# Altium footprint library QFN.PcbLib: 6 footprints
Each footprint in its own frame and in the unit in brackets; x right, y up, seen from the top. Pads: shape width x height; smd on the part's side, far side on the other; paste and mask are expansions set on the pad; w line width, h text height; cw(c..) or ccw(c..) is an arc to the next point about the centre after c.
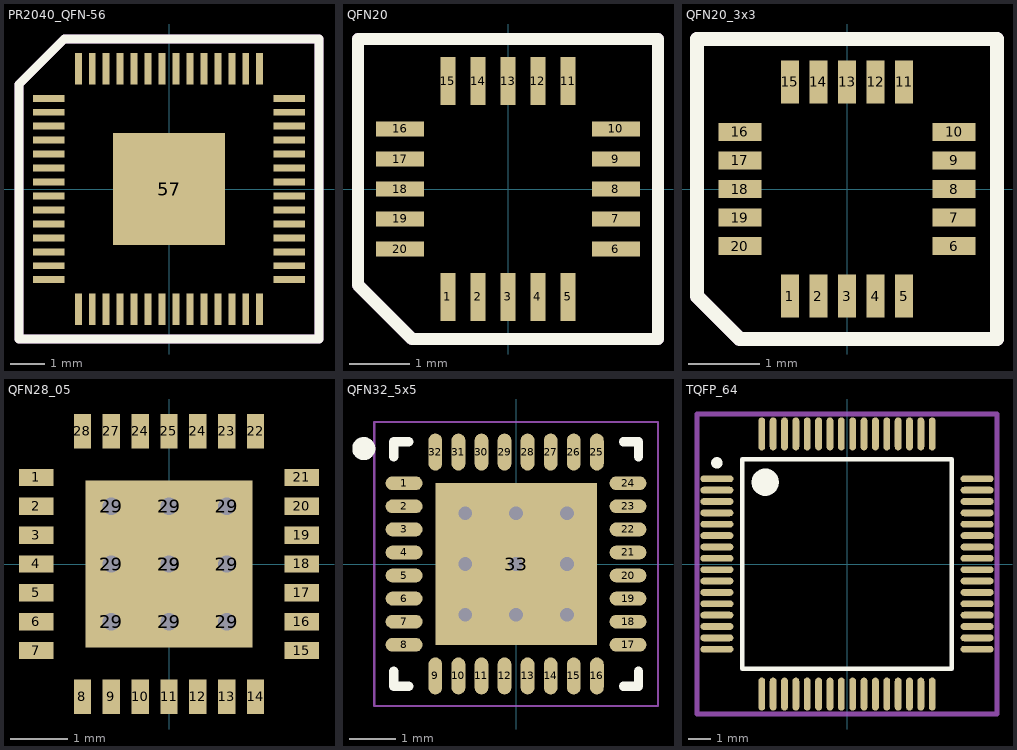
[diagram p0: the footprints below, top view; thin cyan lines are the x and y axes]

## PR2040_QFN-56 [mm]
pads (57):
  rect 0.9x0.2 smd: 1(-3.45,2.6) 2(-3.45,2.2) 3(-3.45,1.8) 4(-3.45,1.4) 5(-3.45,1) 6(-3.45,0.6) 7(-3.45,0.2) 8(-3.45,-0.2) 9(-3.45,-0.6) 10(-3.45,-1) 11(-3.45,-1.4) 12(-3.45,-1.8) 13(-3.45,-2.2) 14(-3.45,-2.6) 29(3.45,-2.6) 30(3.45,-2.2) 31(3.45,-1.8) 32(3.45,-1.4) 33(3.45,-1) 34(3.45,-0.6) 35(3.45,-0.2) 36(3.45,0.2) 37(3.45,0.6) 38(3.45,1) 39(3.45,1.4) 40(3.45,1.8) 41(3.45,2.2) 42(3.45,2.6)
  rect 0.2x0.9 smd: 15(-2.6,-3.45) 16(-2.2,-3.45) 17(-1.8,-3.45) 18(-1.4,-3.45) 19(-1,-3.45) 20(-0.6,-3.45) 21(-0.2,-3.45) 22(0.2,-3.45) 23(0.6,-3.45) 24(1,-3.45) 25(1.4,-3.45) 26(1.8,-3.45) 27(2.2,-3.45) 28(2.6,-3.45) 43(2.6,3.45) 44(2.2,3.45) 45(1.8,3.45) 46(1.4,3.45) 47(1,3.45) 48(0.6,3.45) 49(0.2,3.45) 50(-0.2,3.45) 51(-0.6,3.45) 52(-1,3.45) 53(-1.4,3.45) 54(-1.8,3.45) 55(-2.2,3.45) 56(-2.6,3.45)
  rect 3.2x3.2 smd: 57(0,0)
Top Overlay:
  lines w0.254: -4.3,-4.3 4.3,-4.3 4.3,4.3 -3,4.3 -4.3,3 -4.3,-4.3
TopAssy:
  lines w0.254: -4.3,-4.3 -4.3,3 -3,4.3 4.3,4.3 4.3,-4.3 -4.3,-4.3
  text ".Designator" at -3.6,-0.4 h1.52
3D body "RP2040_QFN56_04.step": height 0.85, standoff -0.05, extent -3.52,-3.52 3.52,3.52

## QFN20 [mm]
pads (20):
  rect 0.25x0.8 smd: 1(-1,-1.8) 2(-0.5,-1.8) 3(0,-1.8) 4(0.5,-1.8) 5(1,-1.8) 11(1,1.8) 12(0.5,1.8) 13(0,1.8) 14(-0.5,1.8) 15(-1,1.8)
  rect 0.8x0.25 smd: 6(1.8,-1) 7(1.8,-0.5) 8(1.8,0) 9(1.8,0.5) 10(1.8,1) 16(-1.8,1) 17(-1.8,0.5) 18(-1.8,0) 19(-1.8,-0.5) 20(-1.8,-1)
Top Overlay:
  lines w0.2: -2.5,-1.6 -2.5,2.5 2.5,2.5 2.5,-2.5 -1.6,-2.5 -2.5,-1.6
TopAssy:
  lines w0.2: -2.5,-1.6 -1.6,-2.5 2.5,-2.5 2.5,2.5 -2.5,2.5 -2.5,-1.6
  text ".Designator" at -0.8,-0.2 h1.52
3D body "QFN20_4x4.step": height 0.9, standoff -0.01, extent -2,-2 2,2

## QFN20_3x3 [mm]
pads (20):
  rect 0.25x0.6 smd: 1(-0.8,-1.5) 2(-0.4,-1.5) 3(0,-1.5) 4(0.4,-1.5) 5(0.8,-1.5) 11(0.8,1.5) 12(0.4,1.5) 13(0,1.5) 14(-0.4,1.5) 15(-0.8,1.5)
  rect 0.6x0.25 smd: 6(1.5,-0.8) 7(1.5,-0.4) 8(1.5,0) 9(1.5,0.4) 10(1.5,0.8) 16(-1.5,0.8) 17(-1.5,0.4) 18(-1.5,0) 19(-1.5,-0.4) 20(-1.5,-0.8)
Top Overlay:
  lines w0.2: -2.1,-1.5 -2.1,2.1 2.1,2.1 2.1,-2.1 -1.5,-2.1 -2.1,-1.5
TopAssy:
  lines w0.2: -2.1,-1.5 -1.5,-2.1 2.1,-2.1 2.1,2.1 -2.1,2.1 -2.1,-1.5
  text ".Designator" at -0.8,-0.2 h1.52
3D body "QFN40P300X300X60-20.step": height 0.6, standoff 0, extent -1.55,-1.55 1.55,1.55

## QFN28_05 [mm]
pads (38):
  rect 0.6x0.3 smd: 1(-2.3,1.5) 2(-2.3,1) 3(-2.3,0.5) 4(-2.3,0) 5(-2.3,-0.5) 6(-2.3,-1) 7(-2.3,-1.5) 15(2.3,-1.5) 16(2.3,-1) 17(2.3,-0.5) 18(2.3,0) 19(2.3,0.5) 20(2.3,1) 21(2.3,1.5)
  rect 0.3x0.6 smd: 8(-1.5,-2.3) 9(-1,-2.3) 10(-0.5,-2.3) 11(0,-2.3) 12(0.5,-2.3) 13(1,-2.3) 14(1.5,-2.3) 22(1.5,2.3) 23(1,2.3) 24(-0.5,2.3) 24(0.5,2.3) 25(0,2.3) 27(-1,2.3) 28(-1.5,2.3)
  round 0.5 hole 0.3: 29(-1,-1) 29(-1,0) 29(-1,1) 29(0,-1) 29(0,0) 29(0,1) 29(1,-1) 29(1,0) 29(1,1)
  rect 2.9x2.9 smd: 29(0,0)
3D body "QFN28-0_5.STEP": height 1, standoff 0, extent -2.5,-2.5 2.5,2.5

## QFN32_5x5 [mm] "QFN, 32-Leads, Body 5,00x5,00mm, Pitch 0,50mm, Thermal Pad 3,70x3,70mm, IPC Medium Density"
height 0.8
pads (33):
  oval 0.8x0.3 smd: 1(-2.425,1.75) 2(-2.425,1.25) 3(-2.425,0.75) 4(-2.425,0.25) 5(-2.425,-0.25) 6(-2.425,-0.75) 7(-2.425,-1.25) 8(-2.425,-1.75) 17(2.425,-1.75) 18(2.425,-1.25) 19(2.425,-0.75) 20(2.425,-0.25) 21(2.425,0.25) 22(2.425,0.75) 23(2.425,1.25) 24(2.425,1.75)
  oval 0.3x0.8 smd: 9(-1.75,-2.425) 10(-1.25,-2.425) 11(-0.75,-2.425) 12(-0.25,-2.425) 13(0.25,-2.425) 14(0.75,-2.425) 15(1.25,-2.425) 16(1.75,-2.425) 25(1.75,2.425) 26(1.25,2.425) 27(0.75,2.425) 28(0.25,2.425) 29(-0.25,2.425) 30(-0.75,2.425) 31(-1.25,2.425) 32(-1.75,2.425)
  rect 3.5x3.5 smd: 33(0,0)
via 0,0 diameter 0.6 hole 0.3
via 1.1,0 diameter 0.6 hole 0.3
via 1.1,-1.1 diameter 0.6 hole 0.3
via 0,-1.1 diameter 0.6 hole 0.3
via -1.1,-1.1 diameter 0.6 hole 0.3
via -1.1,0 diameter 0.6 hole 0.3
via 1.1,1.1 diameter 0.6 hole 0.3
via 0,1.1 diameter 0.6 hole 0.3
via -1.1,1.1 diameter 0.6 hole 0.3
Top Overlay:
  circle w0.25: c-3.3,2.5 r0.125
  lines w0.2: -2.65,-2.325 -2.65,-2.65 -2.325,-2.65 ; -2.65,2.325 -2.65,2.65 -2.325,2.65 ; 2.325,-2.65 2.65,-2.65 2.65,-2.325 ; 2.325,2.65 2.65,2.65 2.65,2.325
TopAssy:
  lines w0.05: -3.075,-3.075 3.075,-3.075 3.075,3.075 -3.075,3.075 -3.075,-3.075
  text ".Designator" at -2.4,-0.1 h1
Mechanical 15:
  lines w0.1: -0.5,0 0.5,0 ; 0,-0.5 0,0.5
3D body "QFN-32-5x5-EQ.step": height 0.85, standoff 0, extent -2.5,-2.5 2.5,2.5

## TQFP_64 [mm]
height 1.6
pads (64):
  oval 1.45x0.3 smd: 1(-5.725,3.75) 2(-5.725,3.25) 3(-5.725,2.75) 4(-5.725,2.25) 5(-5.725,1.75) 6(-5.725,1.25) 7(-5.725,0.75) 8(-5.725,0.25) 9(-5.725,-0.25) 10(-5.725,-0.75) 11(-5.725,-1.25) 12(-5.725,-1.75) 13(-5.725,-2.25) 14(-5.725,-2.75) 15(-5.725,-3.25) 16(-5.725,-3.75) 33(5.725,-3.75) 34(5.725,-3.25) 35(5.725,-2.75) 36(5.725,-2.25) 37(5.725,-1.75) 38(5.725,-1.25) 39(5.725,-0.75) 40(5.725,-0.25) 41(5.725,0.25) 42(5.725,0.75) 43(5.725,1.25) 44(5.725,1.75) 45(5.725,2.25) 46(5.725,2.75) 47(5.725,3.25) 48(5.725,3.75)
  oval 0.3x1.45 smd: 17(-3.75,-5.725) 18(-3.25,-5.725) 19(-2.75,-5.725) 20(-2.25,-5.725) 21(-1.75,-5.725) 22(-1.25,-5.725) 23(-0.75,-5.725) 24(-0.25,-5.725) 25(0.25,-5.725) 26(0.75,-5.725) 27(1.25,-5.725) 28(1.75,-5.725) 29(2.25,-5.725) 30(2.75,-5.725) 31(3.25,-5.725) 32(3.75,-5.725) 49(3.75,5.725) 50(3.25,5.725) 51(2.75,5.725) 52(2.25,5.725) 53(1.75,5.725) 54(1.25,5.725) 55(0.75,5.725) 56(0.25,5.725) 57(-0.25,5.725) 58(-0.75,5.725) 59(-1.25,5.725) 60(-1.75,5.725) 61(-2.25,5.725) 62(-2.75,5.725) 63(-3.25,5.725) 64(-3.75,5.725)
Top Overlay:
  circle w0.6: c-3.6,3.6 r0.3
  circle w0.25: c-5.725,4.45 r0.125
  lines w0.2: -4.6,-4.6 4.6,-4.6 4.6,4.6 -4.6,4.6 -4.6,-4.6
TopAssy:
  lines w0.2: -6.6,-6.6 -6.6,6.6 6.6,6.6 6.6,-6.6 -6.6,-6.6
  text ".Designator" at -2.4,-0.1 h1
3D body "TQFP64_05 package.step": height 1.2, standoff 0, extent -6.048,-6.048 6.048,6.048